# Altium footprint library 高通MSM8916 原理图+PCB Layout_QRD8916_2-4-2_half type_main board_V1.01.PcbLib: 111 footprints (part 2 of 7)
Each footprint in its own frame and in the unit in brackets; x right, y up, seen from the top. Pads: shape width x height; smd on the part's side, far side on the other; paste and mask are expansions set on the pad; w line width, h text height; cw(c..) or ccw(c..) is an arc to the next point about the centre after c.
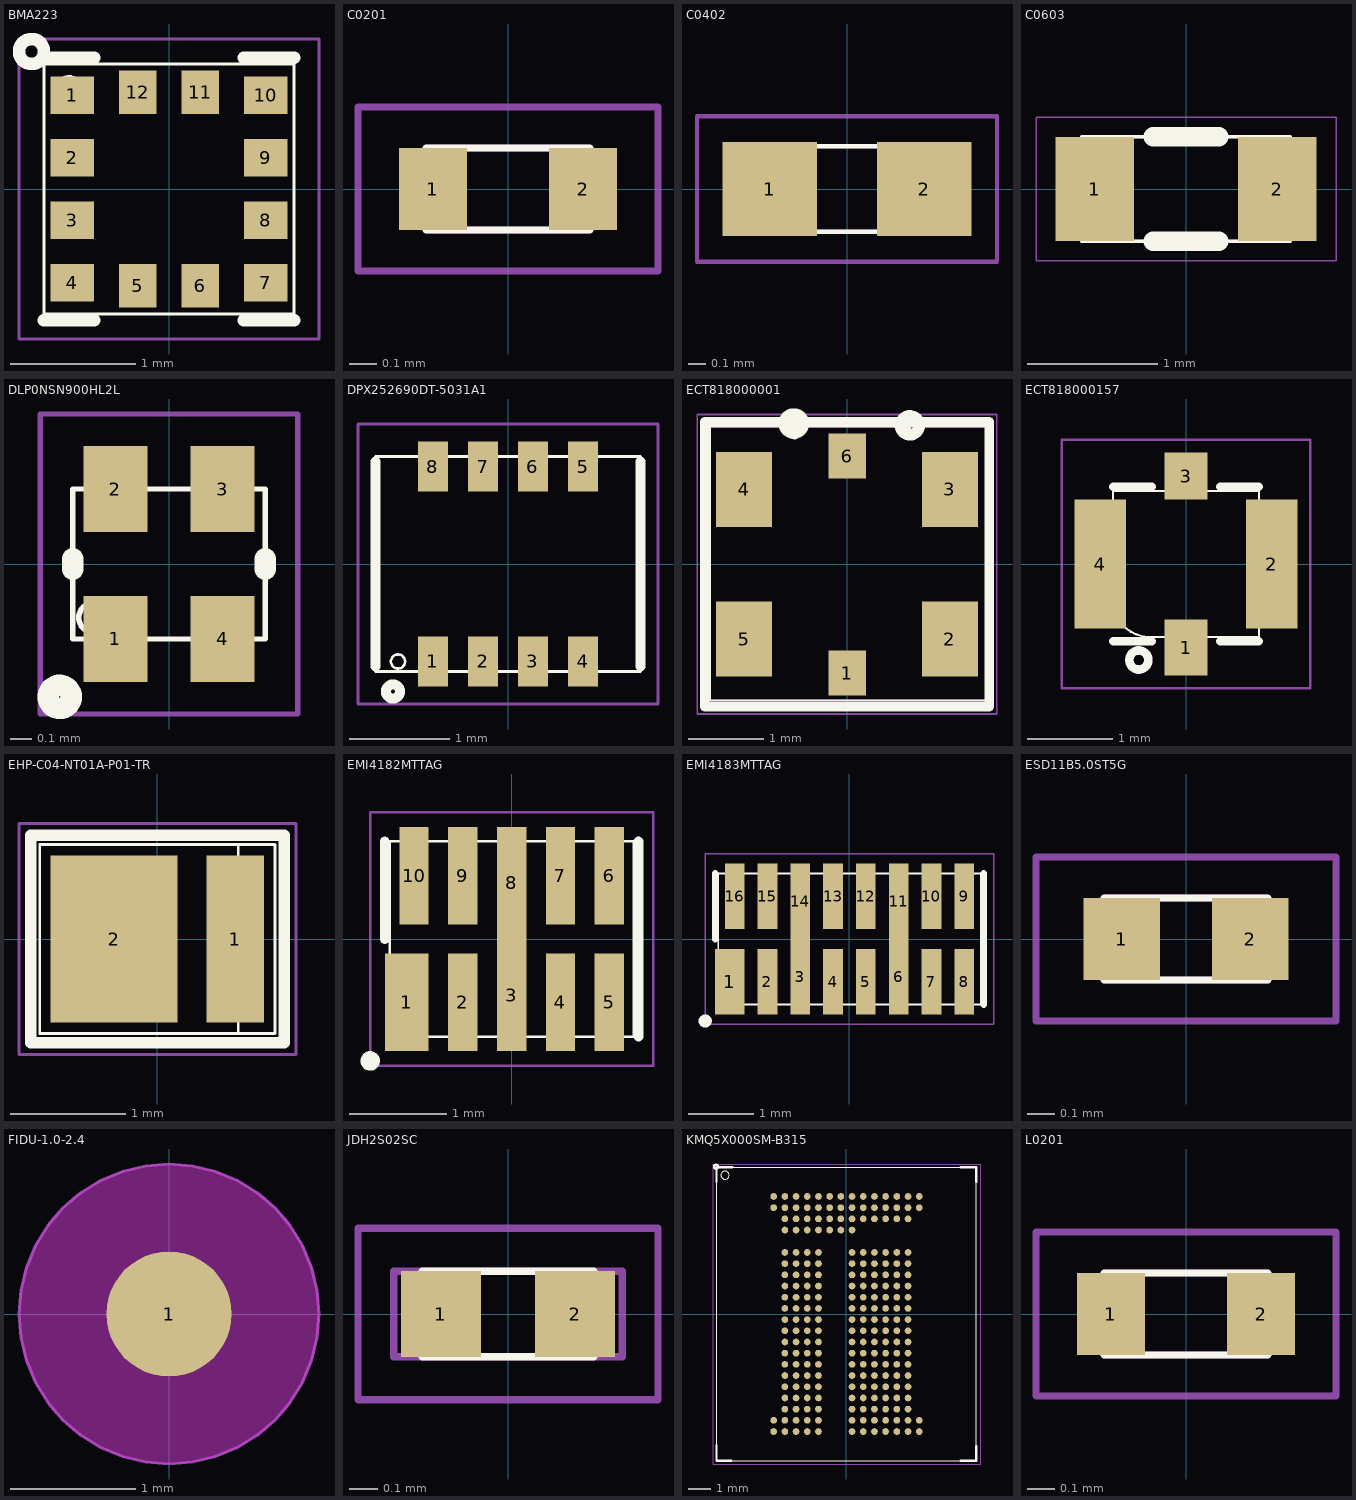
[diagram p1: the footprints below, top view; thin cyan lines are the x and y axes]

## BMA223 [mm]
height 1
pads (12):
  rect 0.35x0.3 smd mask+0.05: 1(-0.775,0.75) 2(-0.775,0.25) 3(-0.775,-0.25) 4(-0.775,-0.75) 7(0.775,-0.75) 8(0.775,-0.25) 9(0.775,0.25) 10(0.775,0.75)
  rect 0.3x0.35 smd mask+0.05: 5(-0.25,-0.775) 6(0.25,-0.775) 11(0.25,0.775) 12(-0.25,0.775)
Top Overlay:
  circle w0.025: c-0.8,0.8 r0.1
  circle w0.1: c-1.1,1.1 r0.1
  lines w0.025: -1,-1 1,-1 1,1 -1,1 -1,-1
  lines w0.1: -1,-1.05 -0.6,-1.05 ; -1,1.05 -0.6,1.05 ; 0.6,-1.05 1,-1.05 ; 0.6,1.05 1,1.05
Top Assembly:
  lines w0.025: -1.2,-1.2 1.2,-1.2 1.2,1.2 -1.2,1.2 -1.2,-1.2

## C0201 [mm]
height 0.35
pads (2):
  rect 0.25x0.3 smd mask+0.05: 1(-0.275,0) 2(0.275,0)
Top Overlay:
  lines w0.025: -0.3,-0.15 0.3,-0.15 0.3,0.15 -0.3,0.15 -0.3,-0.15
Top Assembly:
  lines w0.025: -0.55,-0.3 0.55,-0.3 0.55,0.3 -0.55,0.3 -0.55,-0.3
Mechanical 9:
  lines w0.025: -0.3,-0.15 0.3,-0.15 0.3,0.15 -0.3,0.15 -0.3,-0.15

## C0402 [mm]
height 0.65
pads (2):
  rect 0.55x0.55 smd paste-0.05 mask+0.05: 1(-0.45,0) 2(0.45,0)
Top Overlay:
  lines w0.025: -0.5,-0.25 -0.5,0.25 0.5,0.25 0.5,-0.25 -0.5,-0.25
Top Assembly:
  lines w0.025: -0.875,-0.425 0.875,-0.425 0.875,0.425 -0.875,0.425 -0.875,-0.425
Mechanical 9:
  lines w0.025: -0.5,-0.25 -0.5,0.25 0.5,0.25 0.5,-0.25 -0.5,-0.25

## C0603 [mm]
height 1
pads (2):
  rect 0.6x0.8 smd paste-0.05 mask+0.05: 1(-0.7,0) 2(0.7,0)
Top Overlay:
  lines w0.025: -0.8,-0.4 -0.8,0.4 0.8,0.4 0.8,-0.4 -0.8,-0.4
  lines w0.15: -0.25,-0.4 0.25,-0.4 ; -0.25,0.4 0.25,0.4
Top Assembly:
  lines w0.01: -1.15,-0.55 -1.15,0.55 1.15,0.55 1.15,-0.55 -1.15,-0.55
Mechanical 9:
  lines w0.025: -0.8,-0.4 -0.8,0.4 0.8,0.4 0.8,-0.4 -0.8,-0.4

## DLP0NSN900HL2L [mm]
height 0.5
pads (4):
  rect 0.3x0.4 smd mask+0.05: 1(-0.25,-0.35) 2(-0.25,0.35) 3(0.25,0.35) 4(0.25,-0.35)
Top Overlay:
  circle w0.025: c-0.35,-0.25 r0.071
  circle w0.1: c-0.51,-0.62 r0.054
  lines w0.025: -0.45,-0.35 -0.45,0.35 0.45,0.35 0.45,-0.35 -0.45,-0.35
  lines w0.1: -0.45,-0.025 -0.45,0.025 ; 0.45,-0.025 0.45,0.025
Top Assembly:
  lines w0.025: -0.6,-0.7 0.6,-0.7 0.6,0.7 -0.6,0.7 -0.6,-0.7

## DPX252690DT-5031A1 [mm]
height 1
pads (8):
  rect 0.3x0.5 smd mask+0.05: 1(-0.75,-0.975) 2(-0.25,-0.975) 3(0.25,-0.975) 4(0.75,-0.975) 5(0.75,0.975) 6(0.25,0.975) 7(-0.25,0.975) 8(-0.75,0.975)
Top Overlay:
  circle w0.025: c-1.1,-0.975 r0.071
  circle w0.1: c-1.15,-1.275 r0.071
  lines w0.025: -1.325,-1.075 -1.325,1.075 1.325,1.075 1.325,-1.075 -1.325,-1.075
  lines w0.1: -1.325,-1.025 -1.325,1.025 ; 1.325,-1.025 1.325,1.025
Top Assembly:
  lines w0.025: -1.5,-1.4 1.5,-1.4 1.5,1.4 -1.5,1.4 -1.5,-1.4

## ECT818000001 [mm]
height 1.9
pads (6):
  rect 0.5x0.6 smd mask+0.05: 1(0.005,-1.455) 6(0.005,1.445)
  rect 0.75x1 smd paste-0.05 mask+0.05: 2(1.375,-1) 3(1.375,1) 4(-1.375,1) 5(-1.375,-1)
Top Overlay:
  circle w0.152: c-0.71,1.879 r0.127
  circle w0.152: c0.84,1.854 r0.127
  circle w0.025: c-0.7,1.75 r0.071
  circle w0.025: c0.8,1.75 r0.071
  lines w0.025: -1.83,-1.82 1.86,-1.82 1.86,1.84 -1.83,1.84 -1.83,-1.82
  lines w0.127: -1.9,-1.9 1.9,-1.9 1.9,1.9 -1.9,1.9 -1.9,-1.9
Top Assembly:
  lines w0.025: -2,-2 2,-2 2,2 -2,2 -2,-2
Mechanical 9:
  lines w0.025: -1.83,-1.82 1.86,-1.82 1.86,1.84 -1.83,1.84 -1.83,-1.82

## ECT818000157 [mm]
height 0.95
pads (4):
  rect 0.5x0.65 smd mask+0.05: 1(0,-0.975)
  rect 0.6x1.5 smd mask+0.05: 2(1,0) 4(-1,0)
  rect 0.5x0.55 smd mask+0.05: 3(0,1.025)
Top Overlay:
  circle w0.1: c-0.55,-1.12 r0.112
  circle w0.001: c-0.55,-1.12 r0.112
  lines w0.025: -0.85,-0.45 ccw(c-0.425,-0.425) -0.45,-0.85 0.85,-0.85 0.85,0.85 -0.85,0.85 -0.85,-0.45
  lines w0.1: -0.85,-0.9 -0.4,-0.9 ; -0.85,0.9 -0.4,0.9 ; 0.4,-0.9 0.85,-0.9 ; 0.4,0.9 0.85,0.9
Top Assembly:
  lines w0.025: -1.45,-1.45 1.45,-1.45 1.45,1.45 -1.45,1.45 -1.45,-1.45

## EHP-C04-NT01A-P01-TR [mm]
height 0.7
pads (2):
  rect 0.5x1.45 smd paste-0.025 mask+0.05: 1(0.675,0)
  rect 1.1x1.45 smd mask+0.05: 2(-0.375,0)
Top Overlay:
  lines w0.025: 0.7,-0.81 0.7,0.82 ; -1.02,-0.82 1.02,-0.82 1.02,0.82 -1.02,0.82 -1.02,-0.82
  lines w0.1: -1.1,-0.9 1.1,-0.9 1.1,0.9 -1.1,0.9 -1.1,-0.9
Top Paste:
  region: -0.9,0.7 0.15,0.7 0.15,0.175 -0.9,0.175
  region: -0.9,-0.175 0.15,-0.175 0.15,-0.7 -0.9,-0.7
Top Assembly:
  lines w0.025: -1.2,-1 1.2,-1 1.2,1 -1.2,1 -1.2,-1 ; -0.675,-0.3 -0.075,-0.3 -0.075,0.3 -0.675,0.3 -0.675,-0.3

## EMI4182MTTAG [mm]
height 0.8
pads (10):
  rect 0.45x1 smd paste-0.025 mask+0.05: 1(-1.075,-0.65)
  rect 0.3x1 smd mask+0.05: 2(-0.5,-0.65) 4(0.5,-0.65) 5(1,-0.65) 6(1,0.65) 7(0.5,0.65) 9(-0.5,0.65) 10(-1,0.65)
  rect 0.3x1.15 smd mask+0.05: 3(0,-0.575) 8(0,0.575)
Top Overlay:
  circle w0.025: c-1,-0.7 r0.112
  circle w0.1: c-1.45,-1.25 r0.05
  lines w0.025: -1.25,-1 1.25,-1 1.25,1 -1.25,1 -1.25,-1
  lines w0.1: -1.3,0 -1.3,1 ; 1.3,-1 1.3,1
Top Paste:
  region: -0.15,-0.15 0.15,-0.15 0.15,-1.15 -0.15,-1.15
  region: -0.15,1.15 0.15,1.15 0.15,0.15 -0.15,0.15
Top Assembly:
  lines w0.025: -1.45,-1.3 1.45,-1.3 1.45,1.3 -1.45,1.3 -1.45,-1.3

## EMI4183MTTAG [mm]
height 0.8
pads (16):
  rect 0.45x1 smd paste-0.025 mask+0.05: 1(-1.825,-0.65)
  rect 0.3x1 smd mask+0.05: 2(-1.25,-0.65) 4(-0.25,-0.65) 5(0.25,-0.65) 7(1.25,-0.65) 8(1.75,-0.65) 9(1.75,0.65) 10(1.25,0.65) 12(0.25,0.65) 13(-0.25,0.65) 15(-1.25,0.65) 16(-1.75,0.65)
  rect 0.3x1.15 smd mask+0.05: 3(-0.75,-0.575) 6(0.75,-0.575) 11(0.75,0.575) 14(-0.75,0.575)
Top Overlay:
  circle w0.025: c-1.8,-0.75 r0.112
  circle w0.1: c-2.2,-1.25 r0.05
  lines w0.025: -2,-1 2,-1 2,1 -2,1 -2,-1
  lines w0.1: -2.05,0 -2.05,1 ; 2.05,-1 2.05,1
Top Paste:
  region: -0.9,1.15 -0.6,1.15 -0.6,0.15 -0.9,0.15
  region: -0.9,-0.15 -0.6,-0.15 -0.6,-1.15 -0.9,-1.15
  region: 0.6,1.15 0.9,1.15 0.9,0.15 0.6,0.15
  region: 0.6,-0.15 0.9,-0.15 0.9,-1.15 0.6,-1.15
Top Assembly:
  lines w0.025: -2.2,-1.3 2.2,-1.3 2.2,1.3 -2.2,1.3 -2.2,-1.3

## ESD11B5.0ST5G [mm]
height 0.3
pads (2):
  rect 0.28x0.3 smd mask+0.05: 1(-0.235,0) 2(0.235,0)
Top Overlay:
  lines w0.025: -0.3,-0.15 0.3,-0.15 0.3,0.15 -0.3,0.15 -0.3,-0.15
Top Assembly:
  lines w0.025: -0.55,-0.3 0.55,-0.3 0.55,0.3 -0.55,0.3 -0.55,-0.3
Mechanical 9:
  lines w0.025: -0.3,-0.15 0.3,-0.15 0.3,0.15 -0.3,0.15 -0.3,-0.15

## FIDU-1.0-2.4 [mm]
pads (1):
  round 1 smd: 1(0,0)
Top Layer keep-out:
  region: 1.2,0 1.2,0.118 1.154,0.35 1.063,0.568 0.932,0.765 0.765,0.932 0.568,1.063 0.35,1.154 0.118,1.2 0,1.2 -0.118,1.2 -0.35,1.154 -0.568,1.063 -0.765,0.932 -0.932,0.765 -1.063,0.568 -1.154,0.35 -1.2,0.118 -1.2,0 -1.2,-0.118 -1.154,-0.35 -1.063,-0.568 -0.932,-0.765 -0.765,-0.932 -0.568,-1.063 -0.35,-1.154 -0.118,-1.2 0,-1.2 0.118,-1.2 0.35,-1.154 0.568,-1.063 0.765,-0.932 0.932,-0.765 1.063,-0.568 1.154,-0.35 1.2,-0.118
Top Solder:
  region: 1.2,0 1.2,0.118 1.154,0.35 1.063,0.568 0.932,0.765 0.765,0.932 0.568,1.063 0.35,1.154 0.118,1.2 0,1.2 -0.118,1.2 -0.35,1.154 -0.568,1.063 -0.765,0.932 -0.932,0.765 -1.063,0.568 -1.154,0.35 -1.2,0.118 -1.2,0 -1.2,-0.118 -1.154,-0.35 -1.063,-0.568 -0.932,-0.765 -0.765,-0.932 -0.568,-1.063 -0.35,-1.154 -0.118,-1.2 0,-1.2 0.118,-1.2 0.35,-1.154 0.568,-1.063 0.765,-0.932 0.932,-0.765 1.063,-0.568 1.154,-0.35 1.2,-0.118
Mechanical 14:
  circle w0.025: c0,0 r1.2

## JDH2S02SC [mm]
height 0.33
pads (2):
  rect 0.28x0.3 smd mask+0.05: 1(-0.235,0) 2(0.235,0)
Top Overlay:
  lines w0.025: -0.3,-0.15 0.3,-0.15 0.3,0.15 -0.3,0.15 -0.3,-0.15
Top Assembly:
  lines w0.025: -0.525,-0.3 0.525,-0.3 0.525,0.3 -0.525,0.3 -0.525,-0.3
Mechanical 9:
  lines w0.025: -0.3,-0.15 0.3,-0.15 0.3,0.15 -0.3,0.15 -0.3,-0.15
Mechanical 14:
  lines w0.025: -0.4,-0.15 0.4,-0.15 0.4,0.15 -0.4,0.15 -0.4,-0.15

## KMQ5X000SM-B315 [mm]
height 1
pads (221):
  round 0.3 smd mask+0.05: A1(-3.25,5.25) A2(-2.75,5.25) A3(-2.25,5.25) A4(-1.75,5.25) A5(-1.25,5.25) A6(-0.75,5.25) A7(-0.25,5.25) A8(0.25,5.25) A9(0.75,5.25) A10(1.25,5.25) A11(1.75,5.25) A12(2.25,5.25) A13(2.75,5.25) A14(3.25,5.25) AA1(-3.25,-4.75) AA2(-2.75,-4.75) AA3(-2.25,-4.75) AA4(-1.75,-4.75) AA5(-1.25,-4.75) AA8(0.25,-4.75) AA9(0.75,-4.75) AA10(1.25,-4.75) AA11(1.75,-4.75) AA12(2.25,-4.75) AA13(2.75,-4.75) AA14(3.25,-4.75) AB1(-3.25,-5.25) AB2(-2.75,-5.25) AB3(-2.25,-5.25) AB4(-1.75,-5.25) AB5(-1.25,-5.25) AB8(0.25,-5.25) AB9(0.75,-5.25) AB10(1.25,-5.25) AB11(1.75,-5.25) AB12(2.25,-5.25) AB13(2.75,-5.25) AB14(3.25,-5.25) B1(-3.25,4.75) B2(-2.75,4.75) B3(-2.25,4.75) B4(-1.75,4.75) B5(-1.25,4.75) B6(-0.75,4.75) B7(-0.25,4.75) B8(0.25,4.75) B9(0.75,4.75) B10(1.25,4.75) B11(1.75,4.75) B12(2.25,4.75) B13(2.75,4.75) B14(3.25,4.75) C2(-2.75,4.25) C3(-2.25,4.25) C4(-1.75,4.25) C5(-1.25,4.25) C6(-0.75,4.25) C7(-0.25,4.25) C8(0.25,4.25) C9(0.75,4.25) C10(1.25,4.25) C11(1.75,4.25) C12(2.25,4.25) C13(2.75,4.25) D2(-2.75,3.75) D3(-2.25,3.75) D4(-1.75,3.75) D5(-1.25,3.75) D6(-0.75,3.75) D7(-0.25,3.75) D8(0.25,3.75) F2(-2.75,2.75) F3(-2.25,2.75) F4(-1.75,2.75) F5(-1.25,2.75) F8(0.25,2.75) F9(0.75,2.75) F10(1.25,2.75) F11(1.75,2.75) F12(2.25,2.75) F13(2.75,2.75) G2(-2.75,2.25) G3(-2.25,2.25) G4(-1.75,2.25) G5(-1.25,2.25) G8(0.25,2.25) G9(0.75,2.25) G10(1.25,2.25) G11(1.75,2.25) G12(2.25,2.25) G13(2.75,2.25) H2(-2.75,1.75) H3(-2.25,1.75) H4(-1.75,1.75) H5(-1.25,1.75) H8(0.25,1.75) H9(0.75,1.75) H10(1.25,1.75) H11(1.75,1.75) H12(2.25,1.75) H13(2.75,1.75) J2(-2.75,1.25) J3(-2.25,1.25) J4(-1.75,1.25) J5(-1.25,1.25) J8(0.25,1.25) J9(0.75,1.25) J10(1.25,1.25) J11(1.75,1.25) J12(2.25,1.25) J13(2.75,1.25) K2(-2.75,0.75) K3(-2.25,0.75) K4(-1.75,0.75) K5(-1.25,0.75) K8(0.25,0.75) K9(0.75,0.75) K10(1.25,0.75) K11(1.75,0.75) K12(2.25,0.75) K13(2.75,0.75) L2(-2.75,0.25) L3(-2.25,0.25) L4(-1.75,0.25) L5(-1.25,0.25) L8(0.25,0.25) L9(0.75,0.25) L10(1.25,0.25) L11(1.75,0.25) L12(2.25,0.25) L13(2.75,0.25) M2(-2.75,-0.25) M3(-2.25,-0.25) M4(-1.75,-0.25) M5(-1.25,-0.25) M8(0.25,-0.25) M9(0.75,-0.25) M10(1.25,-0.25) M11(1.75,-0.25) M12(2.25,-0.25) M13(2.75,-0.25) N2(-2.75,-0.75) N3(-2.25,-0.75) N4(-1.75,-0.75) N5(-1.25,-0.75) N8(0.25,-0.75) N9(0.75,-0.75) N10(1.25,-0.75) N11(1.75,-0.75) N12(2.25,-0.75) N13(2.75,-0.75) P2(-2.75,-1.25) P3(-2.25,-1.25) P4(-1.75,-1.25) P5(-1.25,-1.25) P8(0.25,-1.25) P9(0.75,-1.25) P10(1.25,-1.25) P11(1.75,-1.25) P12(2.25,-1.25) P13(2.75,-1.25) R2(-2.75,-1.75) R3(-2.25,-1.75) R4(-1.75,-1.75) R5(-1.25,-1.75) R8(0.25,-1.75) R9(0.75,-1.75) R10(1.25,-1.75) R11(1.75,-1.75) R12(2.25,-1.75) R13(2.75,-1.75) T2(-2.75,-2.25) T3(-2.25,-2.25) T4(-1.75,-2.25) T5(-1.25,-2.25) T8(0.25,-2.25) T9(0.75,-2.25) T10(1.25,-2.25) T11(1.75,-2.25) T12(2.25,-2.25) T13(2.75,-2.25) U2(-2.75,-2.75) U3(-2.25,-2.75) U4(-1.75,-2.75) U5(-1.25,-2.75) U8(0.25,-2.75) U9(0.75,-2.75) U10(1.25,-2.75) U11(1.75,-2.75) U12(2.25,-2.75) U13(2.75,-2.75) V2(-2.75,-3.25) V3(-2.25,-3.25) V4(-1.75,-3.25) V5(-1.25,-3.25) V8(0.25,-3.25) V9(0.75,-3.25) V10(1.25,-3.25) V11(1.75,-3.25) V12(2.25,-3.25) V13(2.75,-3.25) W2(-2.75,-3.75) W3(-2.25,-3.75) W4(-1.75,-3.75) W5(-1.25,-3.75) W8(0.25,-3.75) W9(0.75,-3.75) W10(1.25,-3.75) W11(1.75,-3.75) W12(2.25,-3.75) W13(2.75,-3.75) Y2(-2.75,-4.25) Y3(-2.25,-4.25) Y4(-1.75,-4.25) Y5(-1.25,-4.25) Y8(0.25,-4.25) Y9(0.75,-4.25) Y10(1.25,-4.25) Y11(1.75,-4.25) Y12(2.25,-4.25) Y13(2.75,-4.25)
Top Overlay:
  circle w0.025: c-5.425,6.2 r0.182
  circle w0.1: c-5.825,6.575 r0.09
  lines w0.025: -5.8,-6.55 5.8,-6.55 5.8,6.55 -5.8,6.55 -5.8,-6.55
  lines w0.1: -5.8,-5.85 -5.8,-6.55 -5.15,-6.55 ; -5.8,5.9 -5.8,6.55 -5.1,6.55 ; 5.1,-6.55 5.8,-6.55 5.8,-5.9 ; 5.1,6.55 5.8,6.55 5.8,5.9
Top Assembly:
  lines w0.025: -5.95,-6.7 6,-6.7 6,6.7 -5.95,6.7 -5.95,-6.7

## L0201 [mm]
height 0.35
pads (2):
  rect 0.25x0.3 smd mask+0.05: 1(-0.275,0) 2(0.275,0)
Top Overlay:
  lines w0.025: -0.3,-0.15 0.3,-0.15 0.3,0.15 -0.3,0.15 -0.3,-0.15
Top Assembly:
  lines w0.025: -0.55,-0.3 0.55,-0.3 0.55,0.3 -0.55,0.3 -0.55,-0.3
Mechanical 9:
  lines w0.025: -0.3,-0.15 0.3,-0.15 0.3,0.15 -0.3,0.15 -0.3,-0.15